# Altium schematic symbol library PWR578A.SCHLIB: 81 symbols (part 1 of 2)
Pins are listed as number, name and electrical type; pins without a type are passive.

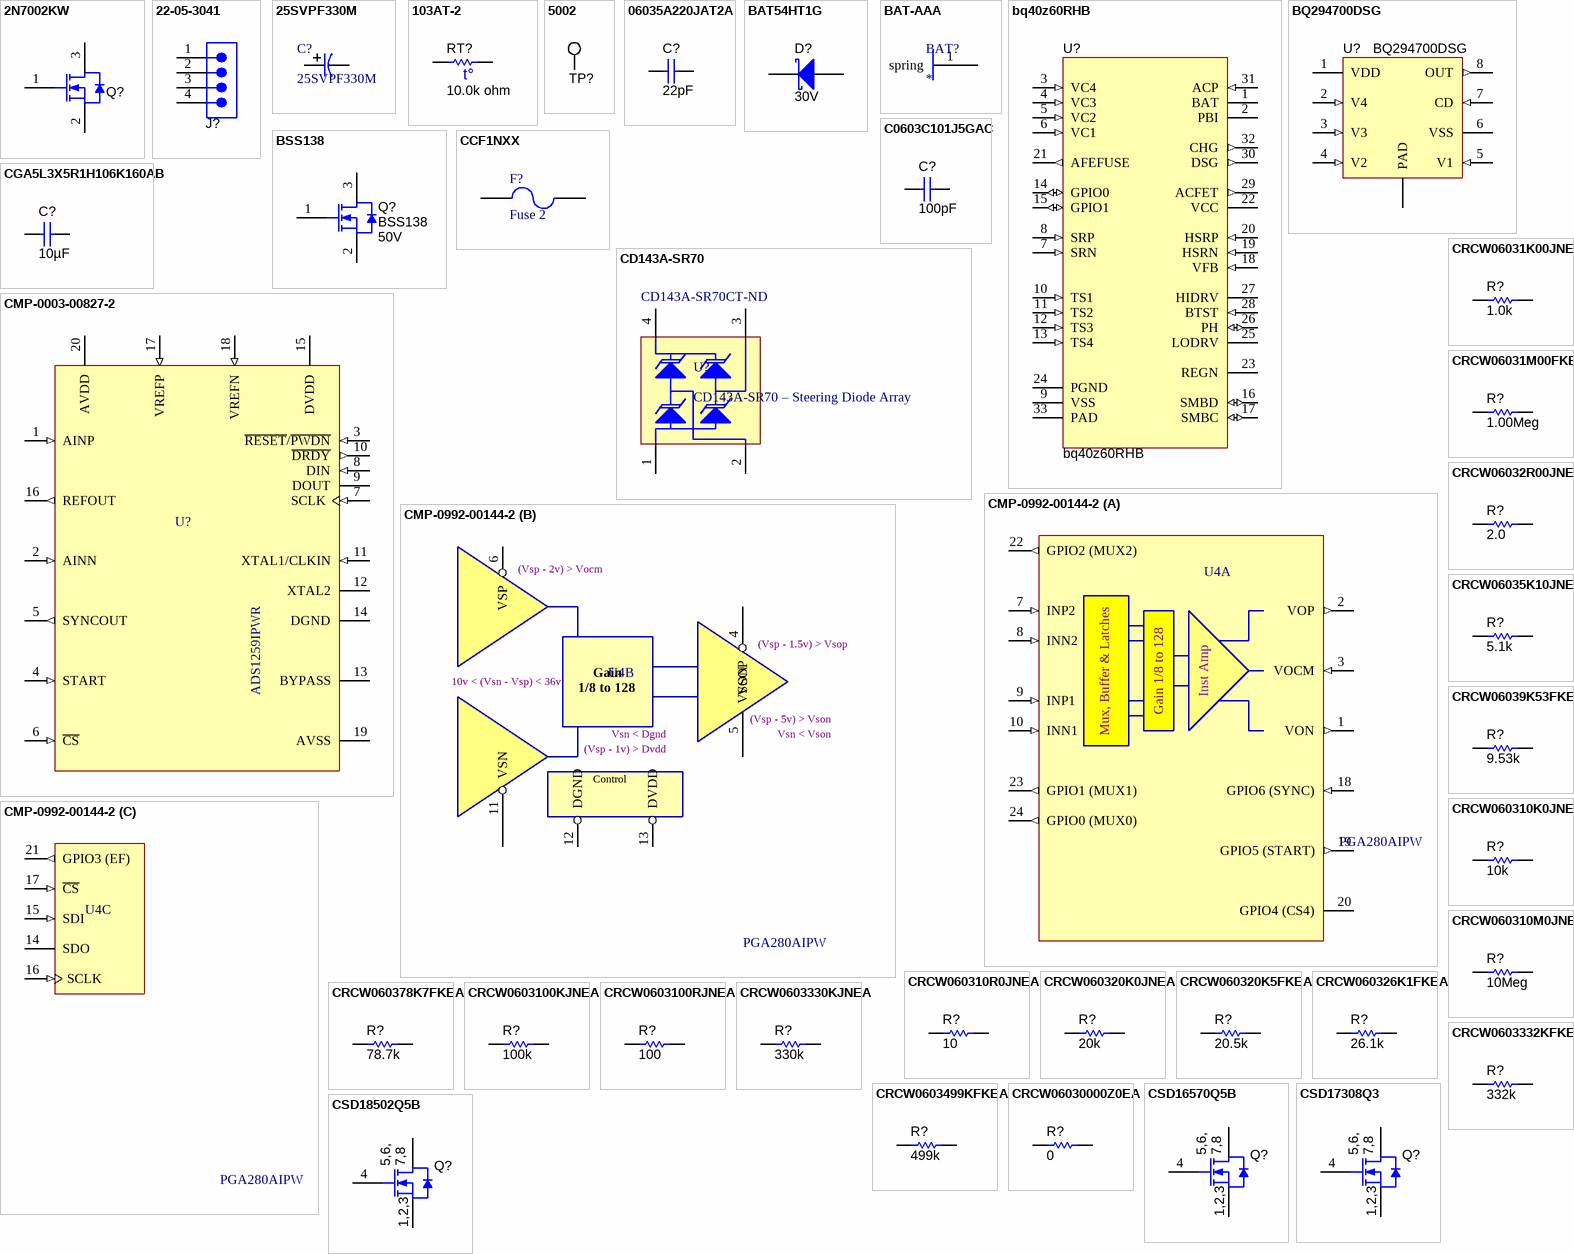
[diagram p0: symbols 2N7002KW to CSD18502Q5B]

## 2N7002KW
designator Q?  (value not drawn)
MOSFET, N-CH, 60V, 0.31A, SOT-323; Manufacturer: Fairchild Semiconductor; Alternate Manufacturer: None; U/M: EA; ChType: N; VdsMax_V: 60; Value1: 1.6 ohm; Rdson45_Ohm: 1.6; Value2: ? nC; Vgs_V: 2.1; IdsMax_A: 0.31; SymbolVersion: 2008-07-28; CompType: MOSFET; Value: 60V; PartNumber: 2N7002KW; PackageReference: SOT-323; RoHS: Y; MountType: SMT; Published: 2008-06-19; Publisher: Texas Instruments; LatestRevisionDate: 2013-07-16; LatestRevisionNote: Added parts.; ComponentLink1Description: Datasheet link; ComponentLink1URL: http://www.fairchildsemi.com/ds/2N/2N7002KW.pdf; Supplier 1: Digi-Key; Supplier Part Number 1: 2N7002KWCT-ND; Supplier 2: Mouser; Supplier Part Number 2: 512-2N7002KW
footprint SOT-323
pins: 1 G, 2 S, 3 D

## 22-05-3041
designator J?  (value not drawn)
Header, 100mil, 4x1, R/A, TH; Manufacturer: Molex; SymbolCreator: a0412235; U/M: EA; ComponentLink1URL: http://www.molex.com/pdm_docs/sd/022053041_sd.pdf; SymbolVersion: 2013-03-16; PackageReference: 4x1 R/A Header; PartNumber: 22-05-3041; ComponentLink1Description: Datasheet Link; CompType: Header; RoHS: Y; MountType: TH; Publisher: Texas Instruments; LatestRevisionDate: 2013-07-11; Supplier 1: Digi-Key; Supplier Part Number 1: WM4302-ND; Supplier 2: Mouser; Supplier Part Number 2: 538-22-05-3041; Supplier 3: Farnell; Supplier Part Number 3: 1756798
footprint CONN_22-05-3041
pins: 1, 2, 3, 4

## 25SVPF330M
designator C?
No Description Available; Vendor: Panasonic; Built_By: EMA_UL_Team; SourceLibrary: Panasonic_2013-09-03; Type: DEV; Manufacturer_Part_Number: 25SVPF330M; Copyright: Copyright (C) 2018 Accelerated Designs. All rights reserved; RefDes: RefDes
footprint PCAP_SVP_F12_PAN
pins: 1, 2

## 103AT-2
designator RT?  value 10.0k ohm  (hidden comment: 103AT-2)
Thermistor NTC, 10.0k ohm, 1%, Disc, 5x8.4 mm; Manufacturer: SEMITEC Corporation; Tolerance_%: 1; Power_W: 0.01; TaMin_C: -50; TaMax_C: 110; U/M: EA; CompType: ThermistorNTC; SymbolVersion: 2008-11-25; PartNumber: 103AT-2; Series: AT; PackageReference: Disc, 5x8.4 mm; MountType: TH; RoHS: Y; ComponentLink1Description: Datasheet link; ComponentLink1URL: http://www.semitec.co.jp/english2/products/pdf/AT_Thermistor.pdf; Published: 2009-09-22; Publisher: Texas Instruments; LatestRevisionDate: 2013-06-29; Supplier 1: Mouser; Supplier Part Number 1: 954-103AT-2
footprint Thermistor_103AT-2
pins: 1, 2
text: t°

## 5002
designator TP?  (value not drawn)
Test Point, Miniature, White, TH; Manufacturer: Keystone; CompType: Test Point Loop; U/M: EA; SymbolVersion: 2008-04-04; PartNumber: 5002; Value: White; RoHS: Y; PackageReference: White Miniature Testpoint; MountType: TH; ComponentLink1Description: Datasheet Link; ComponentLink1URL: http://www.keyelco.com/userAssets/file/M60-2p60.pdf; Publisher: Texas Instruments; LatestRevisionDate: 2013-07-11; Supplier 1: Digi-Key; Supplier Part Number 1: 5002K-ND; Supplier 2: Newark; Supplier Part Number 2: 82H9632
footprint Keystone5002
pins: 1

## 06035A220JAT2A
designator C?  ValueDisplayed: 22pF  (hidden comment: 06035A220JAT2A)
CAP, CERM, 22pF, 50V, +/-5%, C0G/NP0, 0603; Manufacturer: AVX; Polarized: N; CompType: Capacitor; U/M: EA; Cap_F: 0.000000000022; Tolerance_%: 5; ESR_Ohm: 0.259; Value1: 0.259 ohm; VDC_V: 50; TaMin_C: -55; TaMax_C: 125; Cap_Case: 0603; SymbolVersion: 2008-07-09; Value: 22pF; PartNumber: 06035A220JAT2A; PackageReference: 0603; RoHS: Y; Value2: 50V; MountType: SMT; Technology: Ceramic; TempCo: C0G/NP0; Published: 2008-06-19; Publisher: Texas Instruments; LatestRevisionDate: 2013-07-18; ComponentLink1Description: Datasheet link; ComponentLink1URL: http://www.avx.com/docs/masterpubs/smccp.pdf; Supplier 1: Digi-Key; Supplier Part Number 1: 478-1167-1-ND; Supplier 2: Mouser; Supplier Part Number 2: 581-06035A220J; Supplier 3: Farnell; Supplier Part Number 3: 498543
signal-integrity model Cap
simulation model Cap
footprint 0603
footprint 0603M
footprint 0603L
footprint 0603_HV
pins: 1, 2

## BAT54HT1G
designator D?  value 30V  (hidden comment: BAT54HT1G)
Diode, Schottky, 30V, 0.2A, SOD-323; Manufacturer: ON Semiconductor; U/M: EA; Vf_V: 0.35; Value2: 0.35V; Io_A: 0.2; Vr_V: 30; CompType: Diode; SymbolVersion: 2008-12-08; PartNumber: BAT54HT1G; PackageReference: SOD-323; Value1: 0.2A; MountType: SMT; Type: Schottky; Published: 2008-06-26; Publisher: Texas Instruments; LatestRevisionDate: 2013-07-17; ComponentLink1Description: Datasheet link; ComponentLink1URL: http://www.onsemi.com/pub/Collateral/BAT54HT1-D.PDF; Supplier 1: Digi-Key; Supplier Part Number 1: BAT54HT1GOSCT-ND; Supplier 2: Mouser; Supplier Part Number 2: 863-BAT54HT1G; Supplier 3: Farnell; Supplier Part Number 3: 1459033
signal-integrity model Diode
footprint sod-323
pins: 1 K, 2 A

## BAT-AAA
designator BAT?
AAA battery spring
footprint PN591 (AAA Spring Battery Holder)
pins: 1 spring

## bq40z60RHB
designator U?
Programmable Battery Pack Manager, RHB0032E; Alternate Manufacturer: None; Manufacturer: Texas Instruments; SymbolCreator: a0411947; CompType: IC; U/M: EA; SymbolVersion: 2013-07-16; PartNumber: bq40z60RHB; PackageReference: RHB0032E; MountType: SMT; ComponentLink1Description: Datasheet Link; ComponentLink1URL: https://sps06.itg.ti.com/sites/KMS/crossdivteams/altium/docs/ComponentDatasheets/bq40z60 PRELIM DS 140722.pdf; RoHS: Y; Publisher: Texas Instruments; LatestRevisionDate: 2014-09-29
footprint RHB0032E
footprint RHB0032E_NV
pins: 1 BAT (power), 2 PBI (power), 3 VC4 (in), 4 VC3 (in), 5 VC2 (in), 6 VC1 (in), 7 SRN (in), 8 SRP (in), 9 VSS (power), 10 TS1 (in), 11 TS2 (in), 12 TS3 (in), 13 TS4 (in), 14 GPIO0 (io), 15 GPIO1 (io), 16 SMBD (io), 17 SMBC (io), 18 VFB (in), 19 HSRN (in), 20 HSRP (in), 21 AFEFUSE (out), 22 VCC (power), 23 REGN (power), 24 PGND (power), 25 LODRV (power), 26 PH (io), 27 HIDRV (power), 28 BTST (in), 29 ACFET (out), 30 DSG (out), 31 ACP (in), 32 CHG (out), 33 PAD (power)

## BQ294700DSG
designator U?
Overvoltage Protection for 2-Series to 4-Series Cell Li-Ion Batteries with External Delay Capacitor, DSG0008A; Alternate Manufacturer: None; Manufacturer: Texas Instruments; SymbolCreator: a0411947; CompType: IC; U/M: EA; SymbolVersion: 2013-07-28; PartNumber: BQ294700DSG; PackageReference: DSG0008A; MountType: SMT; ComponentLink1Description: Datasheet Link; ComponentLink1URL: http://www.ti.com/lit/ds/symlink/bq294700.pdf; RoHS: Y; Publisher: Texas Instruments; LatestRevisionDate: 2013-07-31; LatestRevisionNote: Added Parts
footprint DSG0008A
pins: 1 VDD (power), 2 V4 (in), 3 V3 (in), 4 V2 (in), 5 V1 (in), 6 VSS (power), 7 CD (in), 8 OUT (out), 9 PAD (power)

## BSS138
designator Q?  value 50V
MOSFET, N-CH, 50V, 0.22A, SOT-23; Manufacturer: Fairchild Semiconductor; Alternate Manufacturer: None; U/M: EA; ChType: N; VdsMax_V: 50; Value1: 6 ohm; Rdson45_Ohm: 6; Value2: 1.7 nC; QgTyp_nC: 1.7; Vgs_V: 20; IdsMax_A: 0.22; ComponentLink1URL: http://www.fairchildsemi.com/ds/BS/BSS138.pdf; SymbolVersion: 2008-07-28; PackageReference: SOT-23; PartNumber: BSS138; ComponentLink1Description: Datasheet link; CompType: MOSFET; RoHS: Y; MountType: SMT; Published: 2008-06-19; Publisher: Texas Instruments; LatestRevisionDate: 2013-07-10; LatestRevisionNote: Added parts.; Supplier 1: Digi-Key; Supplier Part Number 1: BSS138CT-ND; Supplier 2: Mouser; Supplier Part Number 2: 512-BSS138; Supplier 3: Farnell; Supplier Part Number 3: 9845330
footprint SOT-23
footprint SOT-23M
footprint SOT-23L
pins: 1 G, 2 S, 3 D

## C0603C101J5GAC
designator C?  ValueDisplayed: 100pF  (hidden comment: C0603C101J5GAC)
CAP, CERM, 100pF, 50V, +/-5%, C0G/NP0, 0603; Manufacturer: Kemet; Polarized: N; CompType: Capacitor; U/M: EA; Cap_F: 0.0000000001; Tolerance_%: 5; Value1: Unknown; VDC_V: 50; TaMin_C: -55; TaMax_C: 125; Cap_Case: 0603; SymbolVersion: 2008-07-09; Value: 100pF; PartNumber: C0603C101J5GAC; PackageReference: 0603; RoHS: Y; Value2: 50V; MountType: SMT; Technology: Ceramic; TempCo: C0G/NP0; Published: 2008-06-19; Publisher: Texas Instruments; LatestRevisionDate: 2013-07-31; ComponentLink1Description: Datasheet link; ComponentLink1URL: http://www.kemet.com/kemet/web/homepage/kechome.nsf/vapubfiles/F3102_Y5V.pdf/$file/F3102_Y5V.pdf; Supplier 1: Farnell; Supplier Part Number 1: 1414602
signal-integrity model Cap
simulation model Cap
footprint 0603
footprint 0603M
footprint 0603L
footprint 0603_HV
pins: 1, 2

## CCF1NXX
designator F?, comment Fuse 2
Fuse; Published: 8-Jun-2000; LatestRevisionDate: 17-Jul-2002; LatestRevisionNote: Re-released for DXP Platform.; PackageReference: PIN-W2/E2.8; Publisher: Altium Limited; PackageDescription: Thru-Hole; 2 Leads
simulation model FUSE (Spice Subcircuit)
footprint FUSE 1206_3216 0.9MM (Chip Fuse 200mA 125V AC 125V DC, 2-Leads, Body 3.18x1.52mm, IPC Medium Density)
pins: 1, 2

## CD143A-SR70
designator U?, comment CD143A-SR70 – Steering Diode Array  Supplier Part Number 1: CD143A-SR70CT-ND
TVS DIODE 7V SOT143; Manufacturer: Bourns; Direction: Unidirectional; Working Voltage: 70V; Element Configuration: Dual; Max Surge Current: 24A; Number of Bidirectional Channels: 2; Power Line Protection: No; Breakdown Voltage: 85V; Leakage Current: 1uA; Test Current: 50uA; ESD Protection: Yes; Max Reverse Current: 100nA; Reverse Recovery Time: 4ns; Supplier 1: Digi-Key; Manufacturer Part Number: CD143A-SR70; RoHS: Yes; Category: TVS Diodes; Stock 1: 14865; Pricing 1: 1=0.91000, 10=0.81100, 100=0.57750, 500=0.48950, 1000=0.39875 (USD); Mount: Surface Mount; Case/Package: SOT-143; Number of Pins: 4; Contact Plating: Tin; Min Operating Temperature: -55°C; Max Operating Temperature: 150°C; Package Quantity: 1; Packaging: Tape and Reel; Clamping Voltage: 7V; Termination: SMD/SMT; Polarity: Unidirectional; Number of Channels: 2; Peak Pulse Current: 24A; Reverse Standoff Voltage: 70V; Min Breakdown Voltage: 85V; Max Reverse Leakage Current: 1uA; Max Breakdown Voltage: 85V; Reverse Breakdown Voltage: 85V; Number of Elements: 2; Length: 3.04mm; Width: 1.39mm; Height: 1.14mm; Depth: 1.39mm; Radiation Hardening: No; REACH SVHC: No SVHC; ComponentLink1URL: https://datasheet.ciiva.com/336/cd143a-sr70-336789.pdf?src-supplier=Digi-Key; ComponentLink1Description: https://datasheet.ciiva.com/336/cd143a-sr70-336789.pdf?src-supplier=Digi-Key; ComponentLink2URL: https://datasheet.ciiva.com/30478/0900766b8118997a-30478775.pdf?src-supplier=RSComponents; ComponentLink2Description: https://datasheet.ciiva.com/30478/0900766b8118997a-30478775.pdf?src-supplier=RSComponents; ComponentLink3URL: https://datasheet.ciiva.com/4509/cd143a-sr70-6316-4509754.pdf?src-supplier=Mouser; ComponentLink3Description: https://datasheet.ciiva.com/4509/cd143a-sr70-6316-4509754.pdf?src-supplier=Mouser; ComponentLink4URL: https://datasheet.ciiva.com/15143/getdatasheetpartid-137227-15143664.pdf?src-supplier=Verical; ComponentLink4Description: https://datasheet.ciiva.com/15143/getdatasheetpartid-137227-15143664.pdf?src-supplier=Verical; ComponentLink5URL: https://datasheet.ciiva.com/1276/1-1276625.pdf?src-supplier=Element14; ComponentLink5Description: https://datasheet.ciiva.com/1276/1-1276625.pdf?src-supplier=Element14; ComponentLink6URL: https://datasheet.ciiva.com/3021/cd143a-sr70-3021745.pdf?src-supplier=Avnet; ComponentLink6Description: https://datasheet.ciiva.com/3021/cd143a-sr70-3021745.pdf?src-supplier=Avnet; ComponentLink7URL: https://datasheet.ciiva.com/26787/cd143a-sr70-26787421.pdf?src-supplier=IIIC; ComponentLink7Description: https://datasheet.ciiva.com/26787/cd143a-sr70-26787421.pdf?src-supplier=IIIC; ComponentLink8URL: https://datasheet.ciiva.com/25955/cd143a-sr70-25955653.pdf?src-supplier=Avnet+Europe; ComponentLink8Description: https://datasheet.ciiva.com/25955/cd143a-sr70-25955653.pdf?src-supplier=Avnet+Europe; ComponentLink9URL: https://datasheet.ciiva.com/336/cd143a-sr70-336790.pdf?src-supplier=Digi-Key; ComponentLink9Description: https://datasheet.ciiva.com/336/cd143a-sr70-336790.pdf?src-supplier=Digi-Key; ComponentLink10URL: https://datasheet.ciiva.com/336/cd143a-sr70-336791.pdf?src-supplier=Digi-Key; ComponentLink10Description: https://datasheet.ciiva.com/336/cd143a-sr70-336791.pdf?src-supplier=Digi-Key; ComponentLink11URL: https://datasheet.ciiva.com/1281/1-1281183.pdf?src-supplier=Farnell; ComponentLink11Description: https://datasheet.ciiva.com/1281/1-1281183.pdf?src-supplier=Farnell
footprint SOT143B (SOT143, 4-Leads, Body 2.90x2.30mm, Pitch 1.90mm, IPC Medium Density)
pins: 1, 2, 3, 4

## CGA5L3X5R1H106K160AB
designator C?  ValueDisplayed: 10µF  (hidden comment: CGA5L3X5R1H106K160AB)
CAP, CERM, 10 µF, 50 V, +/- 10%, X5R, 1206_190; Manufacturer: TDK; Polarized: N; CompType: Capacitor; Value: 10uF; U/M: EA; Cap_F: 0.00001; Tolerance_%: 10; Value1: Unknown; VDC_V: 50; Value2: 50V; TaMin_C: -55; TaMax_C: 85; SymbolVersion: 2008-07-09; PartNumber: CGA5L3X5R1H106K160AB; PackageReference: 1206_190; RoHS: Y; MountType: SMT; Technology: Ceramic; TempCo: X5R; Cap_Case: 1206_190; Published: 2008-06-19; Publisher: Texas Instruments; LatestRevisionDate: 2014-09-26; ComponentLink1Description: Datasheet link; ComponentLink1URL: http://product.tdk.com/capacitor/mlcc/en/documents/mlcc_automotive_general_en.pdf; Supplier 1: Digi-Key; Supplier Part Number 1: 445-7886-1-ND; Supplier 2: Mouser; Supplier Part Number 2: 810-CGA5L3X5R1H106K; Supplier 3: Newark; Supplier Part Number 3: 52W9861
signal-integrity model Cap
simulation model Cap
footprint 1206_190
pins: 1, 2

## CMP-0003-00827-2
designator U?, comment ADS1259IPWR
Low-Noise, 14 kSPS, 24-Bit ADC, -40 to 105 degC, 20-pin SOP (PW20), Green (RoHS & no Sb/Br); Manufacturer: Texas Instruments; Digital Supply(Max)(V): 5.25; Digital Supply(Min)(V): 2.7; Architecture: Delta-Sigma; # Input Channels: 1; Interface: Serial SPI; Resolution(Bits): 24; SubFamily: Precision ADC (<=10MSPS); Sample Rate (max)(SPS): 14.4K; Analog Voltage AV/DD(Min)(V): 4.75; PackageVersion: 4040064-5/G, 02/2011; DatasheetVersion: SBAS424D; ComponentLink3URL: http://www.ti.com.cn/cn/lit/ml/mpds362/mpds362.pdf; PartNumber: ADS1259IPWR; ComponentLink2URL: http://www.ti.com/general/docs/lit/getliterature.tsp?genericPartNumber=ADS1259&fileType=pdf; Mounting Technology: Surface Mount; Analog Voltage AV/DD(Max)(V): 5.25; Code_JEDEC: MO-153; Eco-Plan: Green (RoHS & no Sb/Br); ComponentLink1Description: Manufacturer URL; ComponentLink2Description: Datasheet; PackageDescription: 20-Pin Plastic Small Outline, Body 6.5 x 4.4 mm, Pitch 0.65 mm; PackageReference: PW20; ComponentLink1URL: http://www.ti.com/; ComponentLink3Description: Package Specification
footprint TI-PW20_M (SOP, 20-Leads, Body 6.5x4.4mm, Pitch 0.65mm, IPC Low Density)
footprint TI-PW20_L (SOP, 20-Leads, Body 6.5x4.4mm, Pitch 0.65mm, IPC High Density)
footprint TI-PW20_N (SOP, 20-Leads, Body 6.5x4.4mm, Pitch 0.65mm, IPC Medium Density)
pins: 1 AINP (in) "Positive analog input", 2 AINN (in) "Negative analog input", 3 ~{RESET}/~{PWDN} (in), 4 START (in) "Start conversions, active high", 5 SYNCOUT (out) "Sync clock output (fCLK/8)", 6 ~{CS} (in) "SPI chip-select, active low", 7 SCLK (in) "SPI clock input", 8 DIN (in) "SPI data input", 9 DOUT (hiz) "SPI data output", 10 ~{DRDY} (out) "Data ready output, active low", 11 XTAL1/CLKIN (in), 12 XTAL2 "External crystal2, otherwise no connection", 13 BYPASS "Core voltage bypass", 14 DGND (power) "Digital ground", 15 DVDD (power) "Digital power supply", 16 REFOUT (out) "Positive reference output", 17 VREFP (in) "Positive reference input", 18 VREFN (in) "Negative reference input", 19 AVSS (power) "Negative analog power supply and negative reference output", 20 AVDD (power) "Positive analog power supply"

## CMP-0992-00144-2
designator U4, comment PGA280AIPW
Zero Drift, HV Programmable Gain Amplifier, -40 to 125 degC, 24-pin SOP (PW24), Green (RoHS & no Sb/Br); Manufacturer: Texas Instruments; Input Offset Drift (+/-)(Max)(uV/Degrees Celsius): 0.17; Vs(Max)(V): 36; Gain(V/V): 1/8 to 128; SubFamily: Dual Supply; Vs(Min)(V): 10; Input Bias Current (+/-)(Max)(nA): 2; Noise at 1kHz(Typ)(nV/rt(Hz)): 22; Number of Channels: 4; Input Offset (+/-)(Max)(uV): 15; DatasheetVersion: SBOS487A; Mounting Technology: Surface Mount; Code_JEDEC: MO-153; ComponentLink1Description: Manufacturer URL; PackageReference: PW0024A; Eco-Plan: Green (RoHS & no Sb/Br); ComponentLink1URL: http://www.ti.com/; PackageVersion: 4040064-6/G, 02/2011; ComponentLink2Description: Datasheet; PartNumber: PGA280AIPW; PackageDescription: 24-Pin Plastic Small Outline, Body 7.8 x 4.4 mm, Pitch 0.65 mm; ComponentLink3Description: Package Specification; ComponentLink3URL: http://www.ti.com/litv/pdf/mpds363; ComponentLink2URL: http://www.ti.com/general/docs/lit/getliterature.tsp?genericPartNumber=PGA280&fileType=pdf
footprint PW0024A_N (SOP, 24-Leads, Body 7.9x4.5mm, Pitch 0.65mm, IPC Medium Density)
footprint PW0024A_L (SOP, 24-Leads, Body 7.9x4.5mm, Pitch 0.65mm, IPC High Density)
footprint PW0024A_M (SOP, 24-Leads, Body 7.9x4.5mm, Pitch 0.65mm, IPC Low Density)
part A pins: 1 VON (out) "Inverting signal output", 2 VOP (out) "Noninverting signal output", 3 VOCM (in) "Input, output common-mode voltage", 7 INP2 (in) "AUX input, noninverting", 8 INN2 (in) "AUX input, inverting", 9 INP1 (in) "Signal input, noninverting", 10 INN1 (in) "Signal input, inverting", 18 GPIO6 (SYNC) (in) "GPIO 6, SYNC (in), OSC (out), E\C\S\6", 19 GPIO5 (START) (out) "GPIO 5, BUFA (out), E\C\S\5", 20 GPIO4 (CS4) (oc) "GPIO 4, BUFT (in), E\C\S\4", 22 GPIO2 (MUX2) (out) "GPIO 2, E\C\S\2, MUX2", 23 GPIO1 (MUX1) (out) "GPIO 1, E\C\S\1, MUX1", 24 GPIO0 (MUX0) (out) "GPIO 0, E\C\S\0, MUX0"
part B pins: 4 VSOP (power) "Positive supply for output", 5 VSON (power) "Negative supply for output, AGND", 6 VSP (power) "Positive high-voltage supply", 11 VSN (power) "Negative high-voltage supply", 12 DGND (power) "Digital ground", 13 DVDD (power) "Digital supply"
part C pins: 14 SDO (hiz) "SPI slave data output", 15 SDI (in) "SPI slave data input", 16 SCLK (in) "SPI clock input", 17 ~{CS} (in) "SPI chip select input; active low", 21 GPIO3 (EF) (out) "GPIO 3, EF (out), E\C\S\3"
part A text: Mux, Buffer & Latches; Gain 1/8 to 128; Inst Amp
part B text: (Vsp - 2v) > Vocm; (Vsp - 1.5v) > Vsop; 10v < (Vsn - Vsp) < 36v; Gain; (Vsp - 5v) > Vson; Vsn < Dgnd; Vsn < Vson; (Vsp - 1v) > Dvdd; Control

## CRCW06031K00JNEA
designator R?  value 1.0k  (hidden comment: CRCW06031K00JNEA)
RES, 1.0k ohm, 5%, 0.1W, 0603; Manufacturer: Vishay-Dale; CompType: Resistor; Res_ohm: 1000; Value_Code: 1k00; Tolerance_%: 5; Power_W: 0.1; VDC_V: 75; TempCo: 200 ppm/C; EIA_Code: E24; U/M: EA; SymbolVersion: 2009-05-29; PartNumber: CRCW06031K00JNEA; PackageReference: 0603; RoHS: Y; Value1: 5%; Value2: 0.1W; MountType: SMT; Technology: Thick Film; Published: 2008-06-26; Publisher: Texas Instruments; LatestRevisionDate: 2013-01-08; ComponentLink1Description: Datasheet link; ComponentLink1URL: http://www.vishay.com/docs/20035/dcrcwe3.pdf; Supplier 1: Digi-Key; Supplier Part Number 1: 541-1.0KGCT-ND; Supplier 2: Farnell; Supplier Part Number 2: 1652851; Supplier 3: Newark; Supplier Part Number 3: 59M6750
signal-integrity model Resistor
simulation model Resistor
footprint 0603
footprint 0603M
footprint 0603L
footprint 0603_HV
pins: 1, 2

## CRCW06031M00FKEA
designator R?  value 1.00Meg  (hidden comment: CRCW06031M00FKEA)
RES, 1.00Meg ohm, 1%, 0.1W, 0603; Manufacturer: Vishay-Dale; CompType: Resistor; Res_ohm: 1000000; Value_Code: 1M00; Tolerance_%: 1; Power_W: 0.1; VDC_V: 75; TempCo: 100 ppm/C; EIA_Code: E96; U/M: EA; SymbolVersion: 2009-05-29; PartNumber: CRCW06031M00FKEA; PackageReference: 0603; RoHS: Y; Value1: 1%; Value2: 0.1W; MountType: SMT; Technology: Thick Film; Published: 2008-06-26; Publisher: Texas Instruments; LatestRevisionDate: 2013-07-19; ComponentLink1Description: Datasheet link; ComponentLink1URL: http://www.vishay.com/docs/20035/dcrcwe3.pdf; Supplier 1: Digi-Key; Supplier Part Number 1: 541-1.00MHCT-ND; Supplier 2: Mouser; Supplier Part Number 2: 71-CRCW0603-1.0M-E3; Supplier 3: Farnell; Supplier Part Number 3: 1469746
signal-integrity model Resistor
simulation model Resistor
footprint 0603
footprint 0603M
footprint 0603L
footprint 0603_HV
pins: 1, 2

## CRCW06032R00JNEA
designator R?  value 2.0  (hidden comment: CRCW06032R00JNEA)
RES, 2.0 ohm, 5%, 0.1W, 0603; Manufacturer: Vishay-Dale; CompType: Resistor; Res_ohm: 2; Value_Code: 2R00; Tolerance_%: 5; Power_W: 0.1; VDC_V: 75; TempCo: 200 ppm/C; EIA_Code: E24; U/M: EA; SymbolVersion: 2009-05-29; PartNumber: CRCW06032R00JNEA; PackageReference: 0603; RoHS: Y; Value1: 5%; Value2: 0.1W; MountType: SMT; Technology: Thick Film; Published: 2008-06-26; Publisher: Texas Instruments; LatestRevisionDate: 2013-01-08; ComponentLink1Description: Datasheet link; ComponentLink1URL: http://www.vishay.com/docs/20035/dcrcwe3.pdf; Supplier 1: Digi-Key; Supplier Part Number 1: 541-2.0GCT-ND; Supplier 2: Mouser; Supplier Part Number 2: 71-CRCW0603J-2-E3; Supplier 3: Farnell; Supplier Part Number 3: 1889800
signal-integrity model Resistor
simulation model Resistor
footprint 0603
footprint 0603M
footprint 0603L
footprint 0603_HV
pins: 1, 2

## CRCW06035K10JNEA
designator R?  value 5.1k  (hidden comment: CRCW06035K10JNEA)
RES, 5.1k ohm, 5%, 0.1W, 0603; Manufacturer: Vishay-Dale; CompType: Resistor; Res_ohm: 5100; Value_Code: 5k10; Tolerance_%: 5; Power_W: 0.1; VDC_V: 75; TempCo: 200 ppm/C; EIA_Code: E24; U/M: EA; SymbolVersion: 2009-05-29; PartNumber: CRCW06035K10JNEA; PackageReference: 0603; RoHS: Y; Value1: 5%; Value2: 0.1W; MountType: SMT; Technology: Thick Film; Published: 2008-06-26; Publisher: Texas Instruments; LatestRevisionDate: 2013-01-08; ComponentLink1Description: Datasheet link; ComponentLink1URL: http://www.vishay.com/docs/20035/dcrcwe3.pdf; Supplier 1: Digi-Key; Supplier Part Number 1: 541-5.1KGCT-ND; Supplier 2: Farnell; Supplier Part Number 2: 1570751; Supplier 3: Newark; Supplier Part Number 3: 89M6773
signal-integrity model Resistor
simulation model Resistor
footprint 0603
footprint 0603M
footprint 0603L
footprint 0603_HV
pins: 1, 2

## CRCW06039K53FKEA
designator R?  value 9.53k  (hidden comment: CRCW06039K53FKEA)
RES, 9.53k ohm, 1%, 0.1W, 0603; Manufacturer: Vishay-Dale; CompType: Resistor; Res_ohm: 9530; Value_Code: 9k53; Tolerance_%: 1; Power_W: 0.1; VDC_V: 75; TempCo: 100 ppm/C; EIA_Code: E96; U/M: EA; SymbolVersion: 2009-05-29; PartNumber: CRCW06039K53FKEA; PackageReference: 0603; RoHS: Y; Value1: 1%; Value2: 0.1W; MountType: SMT; Technology: Thick Film; Published: 2008-06-26; Publisher: Texas Instruments; LatestRevisionDate: 2013-01-08; ComponentLink1Description: Datasheet link; ComponentLink1URL: http://www.vishay.com/docs/20035/dcrcwe3.pdf; Supplier 1: Digi-Key; Supplier Part Number 1: 541-9.53KHCT-ND; Supplier 2: Mouser; Supplier Part Number 2: 71-CRCW0603-9.53K-E3; Supplier 3: Farnell; Supplier Part Number 3: 1469844
signal-integrity model Resistor
simulation model Resistor
footprint 0603
footprint 0603M
footprint 0603L
footprint 0603_HV
pins: 1, 2

## CRCW060310K0JNEA
designator R?  value 10k  (hidden comment: CRCW060310K0JNEA)
RES, 10k ohm, 5%, 0.1W, 0603; Manufacturer: Vishay-Dale; CompType: Resistor; Res_ohm: 10000; Value_Code: 10k0; Tolerance_%: 5; Power_W: 0.1; VDC_V: 75; TempCo: 200 ppm/C; EIA_Code: E24; U/M: EA; SymbolVersion: 2009-05-29; PartNumber: CRCW060310K0JNEA; PackageReference: 0603; RoHS: Y; Value1: 5%; Value2: 0.1W; MountType: SMT; Technology: Thick Film; Published: 2008-06-26; Publisher: Texas Instruments; LatestRevisionDate: 2013-01-08; ComponentLink1Description: Datasheet link; ComponentLink1URL: http://www.vishay.com/docs/20035/dcrcwe3.pdf; Supplier 1: Digi-Key; Supplier Part Number 1: 541-10KGCT-ND; Supplier 2: Farnell; Supplier Part Number 2: 1562240; Supplier 3: Newark; Supplier Part Number 3: 52K8066
signal-integrity model Resistor
simulation model Resistor
footprint 0603
footprint 0603M
footprint 0603L
footprint 0603_HV
pins: 1, 2

## CRCW060310M0JNEA
designator R?  value 10Meg  (hidden comment: CRCW060310M0JNEA)
RES, 10Meg ohm, 5%, 0.1W, 0603; Manufacturer: Vishay-Dale; CompType: Resistor; Res_ohm: 10000000; Value_Code: 10M0; Tolerance_%: 5; Power_W: 0.1; VDC_V: 75; TempCo: 200 ppm/C; EIA_Code: E24; U/M: EA; SymbolVersion: 2009-05-29; PartNumber: CRCW060310M0JNEA; PackageReference: 0603; RoHS: Y; Value1: 5%; Value2: 0.1W; MountType: SMT; Technology: Thick Film; Published: 2008-06-26; Publisher: Texas Instruments; LatestRevisionDate: 2013-01-08; ComponentLink1Description: Datasheet link; ComponentLink1URL: http://www.vishay.com/docs/20035/dcrcwe3.pdf; Supplier 1: Digi-Key; Supplier Part Number 1: 541-10MGCT-ND; Supplier 2: Mouser; Supplier Part Number 2: 71-CRCW0603J-10M-E3; Supplier 3: Farnell; Supplier Part Number 3: 1514711
signal-integrity model Resistor
simulation model Resistor
footprint 0603
footprint 0603M
footprint 0603L
footprint 0603_HV
pins: 1, 2

## CRCW060310R0JNEA
designator R?  value 10  (hidden comment: CRCW060310R0JNEA)
RES, 10 ohm, 5%, 0.1W, 0603; Manufacturer: Vishay-Dale; CompType: Resistor; Value_Code: 10R0; Tolerance_%: 5; Power_W: 0.1; VDC_V: 75; TempCo: 200 ppm/C; EIA_Code: E24; U/M: EA; SymbolVersion: 2009-05-29; PartNumber: CRCW060310R0JNEA; PackageReference: 0603; RoHS: Y; Res_ohm: 10; Value1: 5%; Value2: 0.1W; MountType: SMT; Technology: Thick Film; Published: 2008-06-26; Publisher: Texas Instruments; LatestRevisionDate: 2013-01-08; ComponentLink1Description: Datasheet link; ComponentLink1URL: http://www.vishay.com/docs/20035/dcrcwe3.pdf; Supplier 1: Digi-Key; Supplier Part Number 1: 541-10GCT-ND; Supplier 2: Mouser; Supplier Part Number 2: 71-CRCW0603J-10-E3; Supplier 3: Farnell; Supplier Part Number 3: 1514712
signal-integrity model Resistor
simulation model Resistor
footprint 0603
footprint 0603M
footprint 0603L
footprint 0603_HV
pins: 1, 2

## CRCW060320K0JNEA
designator R?  value 20k  (hidden comment: CRCW060320K0JNEA)
RES, 20k ohm, 5%, 0.1W, 0603; Manufacturer: Vishay-Dale; CompType: Resistor; Res_ohm: 20000; Value_Code: 20k0; Tolerance_%: 5; Power_W: 0.1; VDC_V: 75; TempCo: 200 ppm/C; EIA_Code: E24; U/M: EA; SymbolVersion: 2009-05-29; PartNumber: CRCW060320K0JNEA; PackageReference: 0603; RoHS: Y; Value1: 5%; Value2: 0.1W; MountType: SMT; Technology: Thick Film; Published: 2008-06-26; Publisher: Texas Instruments; LatestRevisionDate: 2013-01-08; ComponentLink1Description: Datasheet link; ComponentLink1URL: http://www.vishay.com/docs/20035/dcrcwe3.pdf; Supplier 1: Mouser; Supplier Part Number 1: 71-CRCW0603J-20K-E3; Supplier 2: Farnell; Supplier Part Number 2: 1514734; Supplier 3: Newark; Supplier Part Number 3: 59M6783
signal-integrity model Resistor
simulation model Resistor
footprint 0603
footprint 0603M
footprint 0603L
footprint 0603_HV
pins: 1, 2

## CRCW060320K5FKEA
designator R?  value 20.5k  (hidden comment: CRCW060320K5FKEA)
RES, 20.5k ohm, 1%, 0.1W, 0603; Manufacturer: Vishay-Dale; CompType: Resistor; Res_ohm: 20500; Value_Code: 20k5; Tolerance_%: 1; Power_W: 0.1; VDC_V: 75; TempCo: 100 ppm/C; EIA_Code: E96; U/M: EA; SymbolVersion: 2009-05-29; PartNumber: CRCW060320K5FKEA; PackageReference: 0603; RoHS: Y; Value1: 1%; Value2: 0.1W; MountType: SMT; Technology: Thick Film; Published: 2008-06-26; Publisher: Texas Instruments; LatestRevisionDate: 2013-01-08; ComponentLink1Description: Datasheet link; ComponentLink1URL: http://www.vishay.com/docs/20035/dcrcwe3.pdf; Supplier 1: Digi-Key; Supplier Part Number 1: 541-20.5KHCT-ND; Supplier 2: Mouser; Supplier Part Number 2: 71-CRCW0603-20.5K-E3; Supplier 3: Farnell; Supplier Part Number 3: 1469775
signal-integrity model Resistor
simulation model Resistor
footprint 0603
footprint 0603M
footprint 0603L
footprint 0603_HV
pins: 1, 2

## CRCW060326K1FKEA
designator R?  value 26.1k  (hidden comment: CRCW060326K1FKEA)
RES, 26.1k ohm, 1%, 0.1W, 0603; Manufacturer: Vishay-Dale; CompType: Resistor; Res_ohm: 26100; Value_Code: 26k1; Tolerance_%: 1; Power_W: 0.1; VDC_V: 75; TempCo: 100 ppm/C; EIA_Code: E96; U/M: EA; SymbolVersion: 2009-05-29; PartNumber: CRCW060326K1FKEA; PackageReference: 0603; RoHS: Y; Value1: 1%; Value2: 0.1W; MountType: SMT; Technology: Thick Film; Published: 2008-06-26; Publisher: Texas Instruments; LatestRevisionDate: 2013-01-08; ComponentLink1Description: Datasheet link; ComponentLink1URL: http://www.vishay.com/docs/20035/dcrcwe3.pdf; Supplier 1: Digi-Key; Supplier Part Number 1: 541-26.1KHCT-ND; Supplier 2: Mouser; Supplier Part Number 2: 71-CRCW0603-26.1K-E3; Supplier 3: Farnell; Supplier Part Number 3: 1151864
signal-integrity model Resistor
simulation model Resistor
footprint 0603
footprint 0603M
footprint 0603L
footprint 0603_HV
pins: 1, 2

## CRCW060378K7FKEA
designator R?  value 78.7k  (hidden comment: CRCW060378K7FKEA)
RES, 78.7k ohm, 1%, 0.1W, 0603; Manufacturer: Vishay-Dale; CompType: Resistor; Res_ohm: 78700; Value_Code: 78k7; Tolerance_%: 1; Power_W: 0.1; VDC_V: 75; TempCo: 100 ppm/C; EIA_Code: E96; U/M: EA; SymbolVersion: 2009-05-29; PartNumber: CRCW060378K7FKEA; PackageReference: 0603; RoHS: Y; Value1: 1%; Value2: 0.1W; MountType: SMT; Technology: Thick Film; Published: 2008-06-26; Publisher: Texas Instruments; LatestRevisionDate: 2013-01-08; ComponentLink1Description: Datasheet link; ComponentLink1URL: http://www.vishay.com/docs/20035/dcrcwe3.pdf; Supplier 1: Digi-Key; Supplier Part Number 1: 541-78.7KHCT-ND; Supplier 2: Mouser; Supplier Part Number 2: 71-CRCW0603-78.7K-E3; Supplier 3: Farnell; Supplier Part Number 3: 1553309
signal-integrity model Resistor
simulation model Resistor
footprint 0603
footprint 0603M
footprint 0603L
footprint 0603_HV
pins: 1, 2

## CRCW0603100KJNEA
designator R?  value 100k  (hidden comment: CRCW0603100KJNEA)
RES, 100k ohm, 5%, 0.1W, 0603; Manufacturer: Vishay-Dale; CompType: Resistor; Res_ohm: 100000; Tolerance_%: 5; Power_W: 0.1; VDC_V: 75; TempCo: 200 ppm/C; EIA_Code: E24; U/M: EA; SymbolVersion: 2009-05-29; PartNumber: CRCW0603100KJNEA; PackageReference: 0603; RoHS: Y; Value_Code: 100k; Value1: 5%; Value2: 0.1W; MountType: SMT; Technology: Thick Film; Published: 2008-06-26; Publisher: Texas Instruments; LatestRevisionDate: 2013-01-08; ComponentLink1Description: Datasheet link; ComponentLink1URL: http://www.vishay.com/docs/20035/dcrcwe3.pdf; Supplier 1: Mouser; Supplier Part Number 1: 71-CRCW0603J-100K-E3; Supplier 2: Farnell; Supplier Part Number 2: 1692517; Supplier 3: Newark; Supplier Part Number 3: 59M6763
signal-integrity model Resistor
simulation model Resistor
footprint 0603
footprint 0603M
footprint 0603L
footprint 0603_HV
pins: 1, 2

## CRCW0603100RJNEA
designator R?  value 100  (hidden comment: CRCW0603100RJNEA)
RES, 100 ohm, 5%, 0.1W, 0603; Manufacturer: Vishay-Dale; CompType: Resistor; Value_Code: 100R; Tolerance_%: 5; Power_W: 0.1; VDC_V: 75; TempCo: 200 ppm/C; EIA_Code: E24; U/M: EA; SymbolVersion: 2009-05-29; PartNumber: CRCW0603100RJNEA; PackageReference: 0603; RoHS: Y; Res_ohm: 100; Value1: 5%; Value2: 0.1W; MountType: SMT; Technology: Thick Film; Published: 2008-06-26; Publisher: Texas Instruments; LatestRevisionDate: 2013-01-08; ComponentLink1Description: Datasheet link; ComponentLink1URL: http://www.vishay.com/docs/20035/dcrcwe3.pdf; Supplier 1: Digi-Key; Supplier Part Number 1: 541-100GCT-ND; Supplier 2: Mouser; Supplier Part Number 2: 71-CRCW0603J-100-E3; Supplier 3: Farnell; Supplier Part Number 3: 1514715
signal-integrity model Resistor
simulation model Resistor
footprint 0603
footprint 0603M
footprint 0603L
footprint 0603_HV
pins: 1, 2

## CRCW0603330KJNEA
designator R?  value 330k  (hidden comment: CRCW0603330KJNEA)
RES, 330k ohm, 5%, 0.1W, 0603; Manufacturer: Vishay-Dale; CompType: Resistor; Res_ohm: 330000; Tolerance_%: 5; Power_W: 0.1; VDC_V: 75; TempCo: 200 ppm/C; EIA_Code: E24; U/M: EA; SymbolVersion: 2009-05-29; PartNumber: CRCW0603330KJNEA; PackageReference: 0603; RoHS: Y; Value_Code: 330k; Value1: 5%; Value2: 0.1W; MountType: SMT; Technology: Thick Film; Published: 2008-06-26; Publisher: Texas Instruments; LatestRevisionDate: 2013-07-19; ComponentLink1Description: Datasheet link; ComponentLink1URL: http://www.vishay.com/docs/20035/dcrcwe3.pdf; Supplier 1: Mouser; Supplier Part Number 1: 71-CRCW0603J-330K-E3; Supplier 2: Farnell; Supplier Part Number 2: 1514758; Supplier 3: Newark; Supplier Part Number 3: 59M6804
signal-integrity model Resistor
simulation model Resistor
footprint 0603
footprint 0603M
footprint 0603L
footprint 0603_HV
pins: 1, 2

## CRCW0603332KFKEA
designator R?  value 332k  (hidden comment: CRCW0603332KFKEA)
RES, 332k ohm, 1%, 0.1W, 0603; Manufacturer: Vishay-Dale; CompType: Resistor; Res_ohm: 332000; Tolerance_%: 1; Power_W: 0.1; VDC_V: 75; TempCo: 100 ppm/C; EIA_Code: E96; U/M: EA; SymbolVersion: 2009-05-29; PartNumber: CRCW0603332KFKEA; PackageReference: 0603; RoHS: Y; Value_Code: 332k; Value1: 1%; Value2: 0.1W; MountType: SMT; Technology: Thick Film; Published: 2008-06-26; Publisher: Texas Instruments; LatestRevisionDate: 2013-01-08; ComponentLink1Description: Datasheet link; ComponentLink1URL: http://www.vishay.com/docs/20035/dcrcwe3.pdf; Supplier 1: Digi-Key; Supplier Part Number 1: 541-332KHCT-ND; Supplier 2: Mouser; Supplier Part Number 2: 71-CRCW0603-332K-E3; Supplier 3: Farnell; Supplier Part Number 3: 1151950
signal-integrity model Resistor
simulation model Resistor
footprint 0603
footprint 0603M
footprint 0603L
footprint 0603_HV
pins: 1, 2

## CRCW0603499KFKEA
designator R?  value 499k  (hidden comment: CRCW0603499KFKEA)
RES, 499k ohm, 1%, 0.1W, 0603; Manufacturer: Vishay-Dale; CompType: Resistor; Res_ohm: 499000; Tolerance_%: 1; Power_W: 0.1; VDC_V: 75; TempCo: 100 ppm/C; EIA_Code: E96; U/M: EA; SymbolVersion: 2009-05-29; PartNumber: CRCW0603499KFKEA; PackageReference: 0603; RoHS: Y; Value_Code: 499k; Value1: 1%; Value2: 0.1W; MountType: SMT; Technology: Thick Film; Published: 2008-06-26; Publisher: Texas Instruments; LatestRevisionDate: 2013-07-19; ComponentLink1Description: Datasheet link; ComponentLink1URL: http://www.vishay.com/docs/20035/dcrcwe3.pdf; Supplier 1: Digi-Key; Supplier Part Number 1: 541-499KHCT-ND; Supplier 2: Mouser; Supplier Part Number 2: 71-CRCW0603-499K-E3; Supplier 3: Farnell; Supplier Part Number 3: 1152042
signal-integrity model Resistor
simulation model Resistor
footprint 0603
footprint 0603M
footprint 0603L
footprint 0603_HV
pins: 1, 2

## CRCW06030000Z0EA
designator R?  value 0  (hidden comment: CRCW06030000Z0EA)
RES, 0, 5%, 0.1 W, 0603; Manufacturer: Vishay-Dale; CompType: Resistor; Value_Code: 0000; Tolerance_%: 5; Power_W: 0.1; Value2: 0.1W; VDC_V: 75; TempCo: 200 ppm/C; EIA_Code: E24; U/M: EA; SymbolVersion: 2009-05-29; PartNumber: CRCW06030000Z0EA; PackageReference: 0603; RoHS: Y; Res_ohm: 0; Value1: 5%; MountType: SMT; Technology: Thick Film; Published: 2008-06-26; Publisher: Texas Instruments; LatestRevisionDate: 2014-09-19; ComponentLink1Description: Datasheet link; ComponentLink1URL: http://www.vishay.com/docs/20035/dcrcwe3.pdf; Supplier 1: Digi-Key; Supplier Part Number 1: 541-0.0GCT-ND; Supplier 2: Mouser; Supplier Part Number 2: 71-CRCW0603-0-E3; Supplier 3: Farnell; Supplier Part Number 3: 1469739; ValueDisplayed: 0
signal-integrity model Resistor
simulation model Resistor
footprint 0603
footprint 0603M
footprint 0603L
footprint 0603_HV
footprint 0603S
pins: 1, 2

## CSD16570Q5B
designator Q?  (value not drawn)
25V, N ch NexFET MOSFET™, single SON5x6, 0.82mOhm; Manufacturer: Texas Instruments; Manufacturer Part Number: CSD16570Q5BT; CompType: MOSFET; Continuous Drain Current (ID): 100A; Rds On Max: 0.59mR; Input Capacitance: 14nF; Max Power Dissipation: 195W; Gate to Source Voltage (Vgs): 20V; Fall Time: 72ns; Rise Time: 43ns; Turn-Off Delay Time: 156ns; Turn-On Delay Time: 5ns; Threshold Voltage: 1.5V; Number of Channels: 1; SymbolVersion: 2008-07-09; Value: 25V; PartNumber: CSD16570Q5B; PackageReference: DNK0008A; ComponentLink1Description: Datasheet link; ComponentLink1URL: http://www.ti.com/lit/ds/symlink/csd17308q3.pdf; Supplier 1: Digi-Key; RoHS: Yes; Category: MOSFETs; Stock 1: 3774; Pricing 1: 1=2.43000, 10=2.18600, 25=2.06240, 100=1.60880 (USD); Mount: Surface Mount; Number of Pins: 8; Weight: 0.000847oz; Contact Plating: Gold; Min Operating Temperature: -55°C; Max Operating Temperature: 150°C; Packaging: Tape and Reel; Drain to Source Voltage (Vdss): 25V; Element Configuration: Single; Drain to Source Breakdown Voltage: 25V; Package Quantity: 250; Lead Free: Contains Lead; REACH SVHC: No SVHC; ComponentLink2URL: http://www.farnell.com/datasheets/1874868.pdf?src-supplier=Farnell; ComponentLink2Description: http://www.farnell.com/datasheets/1874868.pdf?src-supplier=Farnell; ComponentLink3URL: http://www.farnell.com/datasheets/2026550.pdf?src-supplier=Element14; ComponentLink3Description: http://www.farnell.com/datasheets/2026550.pdf?src-supplier=Element14; ComponentLink4URL: http://www.ti.com/lit/ds/symlink/csd16570q5b.pdf?src-supplier=Digi-Key; ComponentLink4Description: http://www.ti.com/lit/ds/symlink/csd16570q5b.pdf?src-supplier=Digi-Key; ComponentLink5URL: http://www.ti.com/general/docs/lit/getliterature.tsp?genericPartNumber=CSD16570Q5B&fileType=pdf&src-supplier=Farnell; ComponentLink5Description: http://www.ti.com/general/docs/lit/getliterature.tsp?genericPartNumber=CSD16570Q5B&fileType=pdf&src-supplier=Farnell; ComponentLink6URL: http://www.ti.com/general/docs/lit/getliterature.tsp?genericPartNumber=CSD16570Q5B&&fileType=pdf&src-supplier=Avnet; ComponentLink6Description: http://www.ti.com/general/docs/lit/getliterature.tsp?genericPartNumber=CSD16570Q5B&&fileType=pdf&src-supplier=Avnet; ComponentLink7URL: http://www.farnell.com/datasheets/1874868.pdf?src-supplier=Element14; ComponentLink7Description: http://www.farnell.com/datasheets/1874868.pdf?src-supplier=Element14; ComponentLink8URL: http://www.ti.com/lit/gpn/csd16570q5b?src-supplier=Mouser; ComponentLink8Description: http://www.ti.com/lit/gpn/csd16570q5b?src-supplier=Mouser; Supplier Part Number 1: 296-38335-1-ND
footprint DNK8
pins: 1 S, 2 S, 3 S, 4 G, 5 D, 6 D, 7 D, 8 D
text: 5,6,; 7,8; 1,2,3

## CSD17308Q3
designator Q?  (value not drawn)
MOSFET, N-CH, 30V, 47A, SON 3.3x3.3mm; Manufacturer: Texas Instruments; Alternate Manufacturer: None; U/M: EA; ChType: N; VdsMax_V: 30; Value1: 0.0094 ohm; Rdson45_Ohm: 0.0094; Value2: 3.9 nC; QgTyp_nC: 3.9; Vgs_V: 10; IdsMax_A: 47; SymbolVersion: 2008-07-09; CompType: MOSFET; Value: 30V; PartNumber: CSD17308Q3; PackageReference: SON 3.3x3.3mm; RoHS: Y; MountType: SMT; Published: 2008-06-19; Publisher: Texas Instruments; LatestRevisionDate: 2013-07-24; LatestRevisionNote: Added parts.; ComponentLink1Description: Datasheet link; ComponentLink1URL: http://www.ti.com/lit/ds/symlink/csd17308q3.pdf; Supplier 1: Digi-Key; Supplier Part Number 1: 296-27210-1-ND; Supplier 2: Mouser; Supplier Part Number 2: 595-CSD17308Q3; Supplier 3: Farnell; Supplier Part Number 3: 1892457
footprint TRANS_NexFET_Q3
simulation model CSD17308Q3
pins: 1 S, 2 S, 3 S, 4 G, 5 D, 6 D, 7 D, 8 D
text: 5,6,; 7,8; 1,2,3

## CSD18502Q5B
designator Q?  (value not drawn)
40V, N ch NexFET MOSFET™, single SON5x6, 2.3mOhm; Manufacturer: Texas Instruments; CompType: MOSFET; Rise Time: 6.8ns; Continuous Drain Current (ID): 100A; Fall Time: 4ns; Gate to Source Voltage (Vgs): 20V; Turn-Off Delay Time: 23ns; Turn-On Delay Time: 5.3ns; Rds On Max: 2.3mR; Input Capacitance: 5.07nF; Power Dissipation: 3.2W; Drain to Source Resistance: 2.5mR; Threshold Voltage: 1.8V; Number of Elements: 1; SymbolVersion: 2008-07-09; Value: 40V; PartNumber: CSD18502Q5B; PackageReference: DNK0008A; ComponentLink1Description: Datasheet link; ComponentLink1URL: http://www.ti.com/lit/ds/symlink/csd17308q3.pdf; Supplier 1: Digi-Key; Manufacturer Part Number: CSD18502Q5B; RoHS: Yes; Category: Integrated Circuits (ICs); Stock 1: 29285; Pricing 1: 1=2.37000, 10=2.13300, 25=2.01240, 100=1.56980, 500=1.32826, 1000=1.12700 (USD); Mount: Surface Mount; Number of Pins: 8; Contact Plating: Tin,Matte; Min Operating Temperature: -55°C; Max Operating Temperature: 150°C; Element Configuration: Single; Packaging: Tape and Reel; Package Quantity: 1; Drain to Source Breakdown Voltage: 40V; Drain to Source Voltage (Vdss): 40V; Max Power Dissipation: 3.2W; Length: 6.1mm; Height: 1.05mm; Width: 5.1mm; Radiation Hardening: No; Lead Free: Contains Lead; REACH SVHC: No SVHC; ComponentLink2URL: https://datasheet.ciiva.com/14192/csd18502q5b-14192916.pdf?src-supplier=Avnet; ComponentLink2Description: https://datasheet.ciiva.com/14192/csd18502q5b-14192916.pdf?src-supplier=Avnet; ComponentLink3URL: https://datasheet.ciiva.com/14423/csd18502q5b-14423447.pdf?src-supplier=Avnet; ComponentLink3Description: https://datasheet.ciiva.com/14423/csd18502q5b-14423447.pdf?src-supplier=Avnet; ComponentLink4URL: https://datasheet.ciiva.com/6386/csd18502q5b-6386070.pdf?src-supplier=Digi-Key; ComponentLink4Description: https://datasheet.ciiva.com/6386/csd18502q5b-6386070.pdf?src-supplier=Digi-Key; ComponentLink5URL: https://datasheet.ciiva.com/6386/csd18502q5b-6386071.pdf?src-supplier=Digi-Key; ComponentLink5Description: https://datasheet.ciiva.com/6386/csd18502q5b-6386071.pdf?src-supplier=Digi-Key; ComponentLink6URL: https://datasheet.ciiva.com/6386/csd18502q5b-6386072.pdf?src-supplier=Digi-Key; ComponentLink6Description: https://datasheet.ciiva.com/6386/csd18502q5b-6386072.pdf?src-supplier=Digi-Key; Supplier Part Number 1: 296-35629-1-ND
footprint DNK8
pins: 1 S, 2 S, 3 S, 4 G, 5 D, 6 D, 7 D, 8 D
text: 5,6,; 7,8; 1,2,3

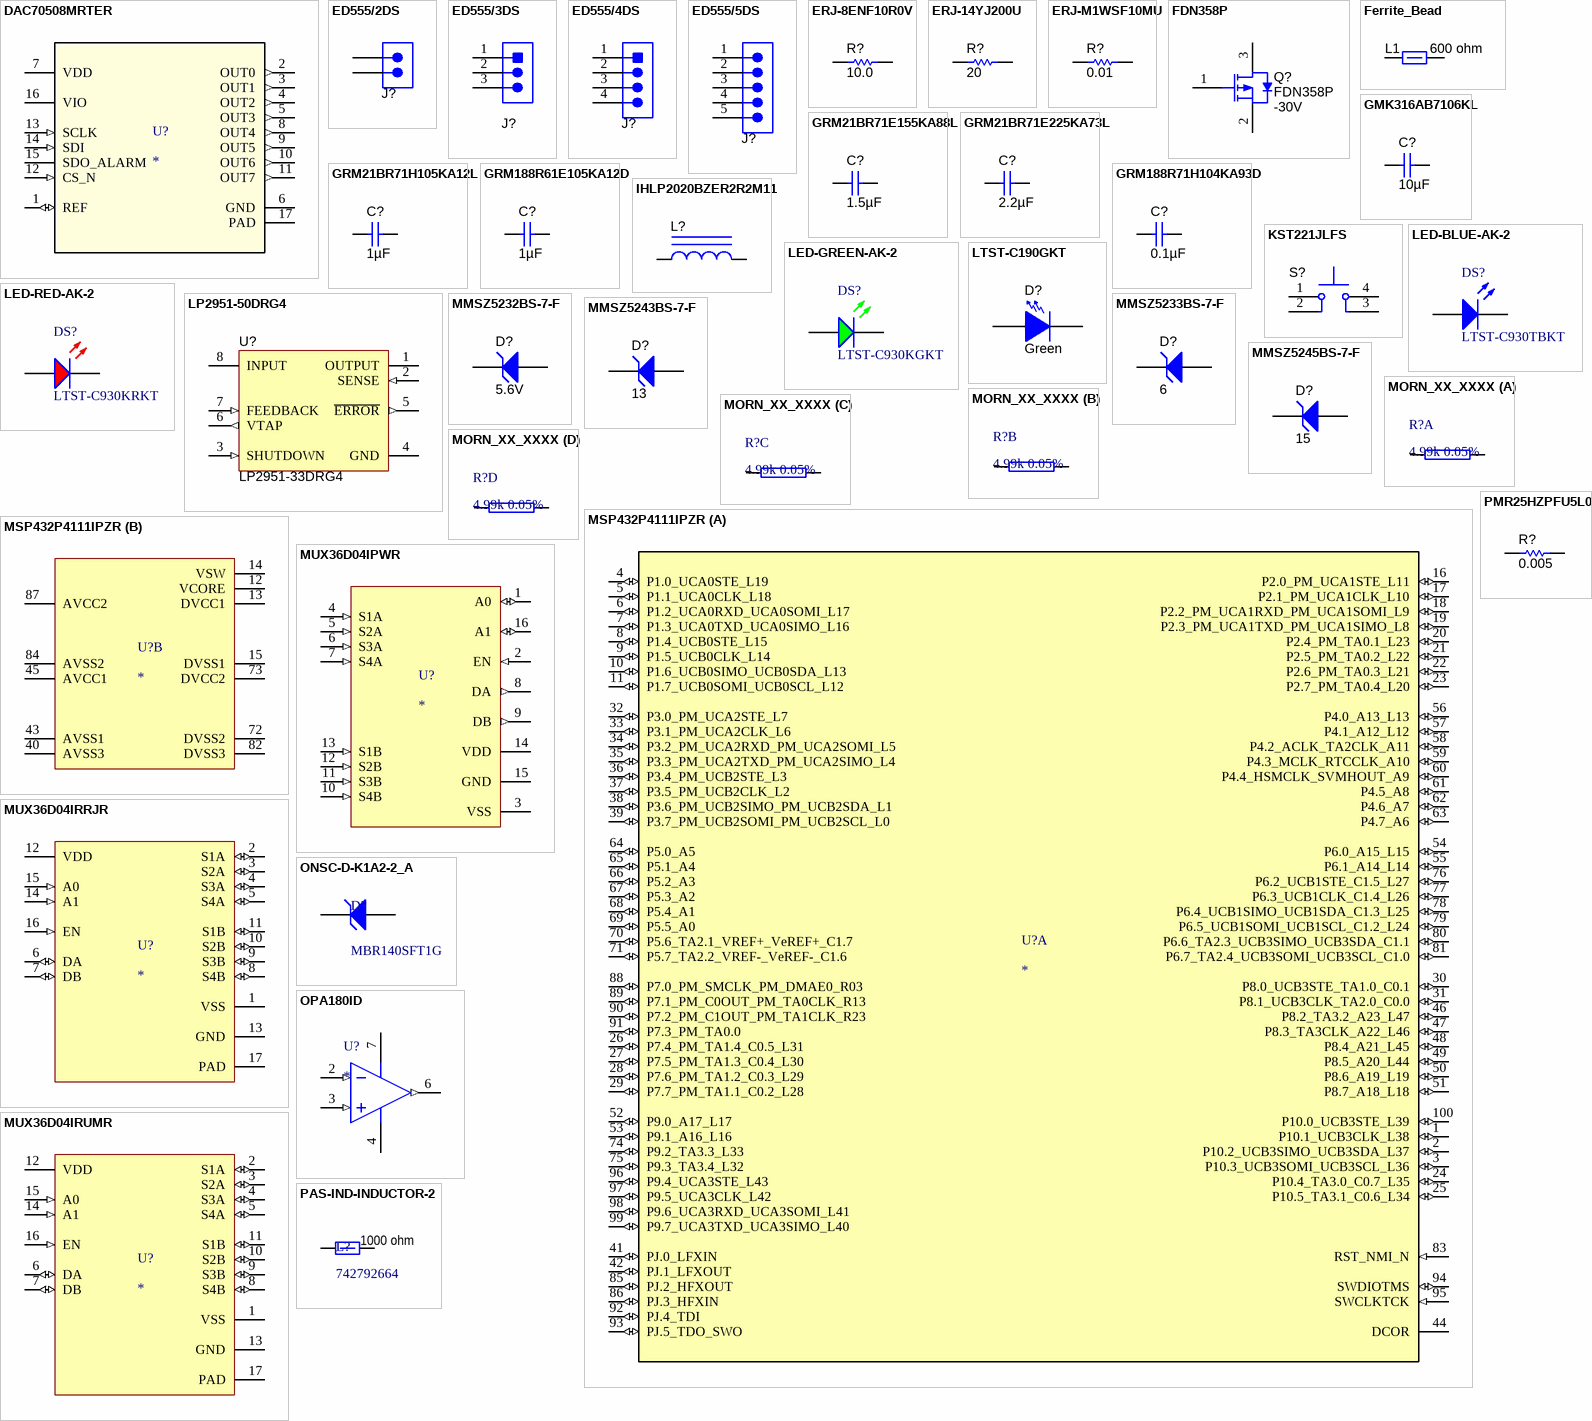
[diagram p1: symbols DAC70508MRTER to PMR25HZPFU5L00]

## DAC70508MRTER
designator U?
No Description Available; PartNumber: DAC70508ZRTER; Manufacturer: Texas Instruments; RefDes: RefDes; Type: DEV; Value: Value; Copyright: Copyright (C) 2018 Accelerated Designs. All rights reserved
footprint RTE0016D
pins: 1 REF (io), 2 OUT0 (out), 3 OUT1 (out), 4 OUT2 (out), 5 OUT3 (out), 6 GND (power), 7 VDD (power), 8 OUT4 (out), 9 OUT5 (out), 10 OUT6 (out), 11 OUT7 (out), 12 CS_N (in), 13 SCLK (in), 14 SDI (in), 15 SDO_ALARM (hiz), 16 VIO (power), 17 PAD (power)

## ED555/2DS
designator J?  (value not drawn)
Terminal Block, 6A, 3.5mm Pitch, 2-Pos, TH; Manufacturer: On-Shore Technology; SymbolCreator: a0412235; CompType: Connector; U/M: EA; SymbolVersion: 2013-03-14; PartNumber: ED555/2DS; RoHS: Y; PackageReference: 7.0x8.2x6.5mm; MountType: TH; ComponentLink1Description: Datasheet Link; ComponentLink1URL: http://on-shore.com/sites/default/files/manuals/ed555ds.pdf; Publisher: Texas Instruments; LatestRevisionDate: 2013-07-26; Supplier 1: Digi-Key; Supplier Part Number 1: ED1514-ND
footprint TERM_BLK_ED555-2DS
pins: 1, 2
1 alternate drawing of the same symbol

## ED555/3DS
designator J?  (value not drawn)
Terminal Block, 6A, 3.5mm Pitch, 3-Pos, TH; Manufacturer: On-Shore Technology; SymbolCreator: a0412235; CompType: Connector; U/M: EA; SymbolVersion: 2013-08-30; PartNumber: ED555/3DS; PackageReference: 14x8.2x6.5mm; RoHS: Y; MountType: TH; ComponentLink1Description: Datasheet Link; ComponentLink1URL: http://on-shore.com/sites/default/files/manuals/ed555ds.pdf; Publisher: Texas Instruments; LatestRevisionDate: 2014-09-28
footprint TERM_BLK_ED555-3DS (Footprint not found)
pins: 1, 2, 3

## ED555/4DS
designator J?  (value not drawn)
Terminal Block, 6A, 3.5mm Pitch, 4-Pos, TH; Manufacturer: On-Shore Technology; SymbolCreator: a0412235; CompType: Connector; U/M: EA; SymbolVersion: 2013-08-30; PartNumber: ED555/4DS; PackageReference: 14x8.2x6.5mm; RoHS: Y; MountType: TH; ComponentLink1Description: Datasheet Link; ComponentLink1URL: http://on-shore.com/sites/default/files/manuals/ed555ds.pdf; Publisher: Texas Instruments; LatestRevisionDate: 2014-09-28; Supplier 1: Digi-Key; Supplier Part Number 1: ED1516-ND
footprint TERM_BLK_ED555-4DS
pins: 1, 2, 3, 4

## ED555/5DS
designator J?  (value not drawn)
Terminal Block, 6A, 3.5mm Pitch, 5-Pos, TH; Manufacturer: On-Shore Technology; SymbolCreator: a0412235; CompType: Connector; U/M: EA; SymbolVersion: 2013-03-16; PartNumber: ED555/5DS; RoHS: Y; PackageReference: 17.5x8.2x6.5mm; MountType: TH; ComponentLink1Description: Datasheet Link; ComponentLink1URL: http://on-shore.com/sites/default/files/manuals/ed555ds.pdf; Publisher: Texas Instruments; LatestRevisionDate: 2013-07-11; Supplier 1: Digi-Key; Supplier Part Number 1: ED1517-ND
footprint TERM_BLK_ED555-5DS
pins: 1, 2, 3, 4, 5

## ERJ-8ENF10R0V
designator R?  value 10.0  (hidden comment: ERJ-8ENF10R0V)
RES, 10.0, 1%, 0.25 W, 1206; Manufacturer: Panasonic; CompType: Resistor; Res_ohm: 10; Value_Code: 10R0; Tolerance_%: 1; Power_W: 0.25; Value2: 0.25W; VDC_V: 200; TempCo: 100 ppm/C; EIA_Code: E96; U/M: EA; SymbolVersion: 2009-05-29; PartNumber: ERJ-8ENF10R0V; PackageReference: 1206; RoHS: Y; Value1: 1%; MountType: SMT; Technology: Thick Film; Published: 2008-06-26; Publisher: Texas Instruments; LatestRevisionDate: 2014-09-18; ComponentLink1Description: Datasheet link; ComponentLink1URL: http://www.panasonic.com/industrial/components/pdf/AOA0000CE2.pdf; Supplier 1: Digi-Key; Supplier Part Number 1: P10.0FCT-ND; Supplier 2: Farnell; Supplier Part Number 2: 1748406; ValueDisplayed: 10.0
signal-integrity model Resistor
simulation model Resistor
footprint 1206
footprint 1206M
footprint 1206L
pins: 1, 2

## ERJ-14YJ200U
designator R?  value 20  (hidden comment: ERJ-14YJ200U)
RES, 20 ohm, 5%, 0.5W, 1210; Manufacturer: Panasonic; CompType: Resistor; Value_Code: 20R0; Tolerance_%: 5; Power_W: 0.5; VDC_V: 200; TempCo: 200 ppm/C; EIA_Code: E24; U/M: EA; SymbolVersion: 2009-05-29; PartNumber: ERJ-14YJ200U; PackageReference: 1210; RoHS: Y; Res_ohm: 20; Value1: 5%; Value2: 0.5W; MountType: SMT; Technology: Thick Film; Published: 2008-06-26; Publisher: Texas Instruments; LatestRevisionDate: 2013-07-24; ComponentLink1Description: Datasheet link; ComponentLink1URL: http://industrial.panasonic.com/www-data/pdf/AOA0000/AOA0000CE1.pdf; Supplier 1: Digi-Key; Supplier Part Number 1: P20VCT-ND; Supplier 2: Mouser; Supplier Part Number 2: 667-ERJ-14YJ200U; Supplier 3: Farnell; Supplier Part Number 3: 2281553
signal-integrity model Resistor
simulation model Resistor
footprint 1210M
footprint 1210L
footprint 1210
pins: 1, 2

## ERJ-M1WSF10MU
designator R?  value 0.01  (hidden comment: ERJ-M1WSF10MU)
RES, 0.01 ohm, 1%, 1W, 2512; Manufacturer: Panasonic; CompType: Resistor; Value_Code: R010; Tolerance_%: 1; TempCo: 100 ppm/C; EIA_Code: E96; U/M: EA; SymbolVersion: 2009-05-29; PartNumber: ERJ-M1WSF10MU; PackageReference: 2512; RoHS: Y; Res_ohm: 0.01; Value1: 1%; Power_W: 1; Value2: 1W; MountType: SMT; Technology: Thick Film; Published: 2008-06-26; Publisher: Texas Instruments; LatestRevisionDate: 2013-07-17; ComponentLink1Description: Datasheet link; ComponentLink1URL: http://industrial.panasonic.com/www-cgi/jvcr13pz.cgi?E+PZ+3+AOA0007+ERJM1WTF3M0U+7+WW; Supplier 1: Digi-Key; Supplier Part Number 1: P10MCT-ND; Supplier 2: Mouser; Supplier Part Number 2: 667-ERJ-M1WSF10MU; Supplier 3: Farnell; Supplier Part Number 3: 1577582
signal-integrity model Resistor
simulation model Resistor
footprint 2512M
footprint 2512L
footprint 2512
pins: 1, 2

## FDN358P
designator Q?  value -30V
MOSFET, P-CH, -30V, -1.5A, SSOT-3; Manufacturer: Fairchild Semiconductor; Alternate Manufacturer: None; U/M: EA; ChType: P; VdsMax_V: -30; Value1: 0.2 ohm; Rdson45_Ohm: 0.2; Value2: 4 nC; QgTyp_nC: 4; Vgs_V: 20; IdsMax_A: -1.5; SymbolVersion: 2008-07-09; PartNumber: FDN358P; PackageReference: SSOT-3; CompType: MOSFET; RoHS: Y; MountType: SMT; Published: 2008-06-19; Publisher: Texas Instruments; LatestRevisionDate: 2013-11-17; LatestRevisionNote: Added parts.; ComponentLink1Description: Datasheet link; ComponentLink1URL: http://www.fairchildsemi.com/ds/FD/FDN358P.pdf; Supplier 1: Digi-Key; Supplier Part Number 1: FDN358PCT-ND; Supplier 2: Mouser; Supplier Part Number 2: 512-FDN358P; Supplier 3: Farnell; Supplier Part Number 3: 9846328
footprint SSOT-3
pins: 1 G, 2 S, 3 D

## Ferrite_Bead
designator L1  value 600 ohm  (hidden comment: Ferrite_Bead)
Ferrite Bead, 600 ohm @ 100 MHz, 1 A, 0603; PartNumber: 742792651; Manufacturer: Wurth Elektronik; Imax_A: 1A; DCR_ohm: 2d; Value1: 0.2 ohm; ZTyp@100MHz_Ohm: 600; Ztyp@1GHz_Ohm: 257.548; SizeArea_mm2: 1.28; SizeAreaWB_mm2: 4.68; SizeX_mm: 1.6; SizeY_mm: 0.8; SizeZ_mm: 1; CompType: Ferrite Bead; Value2: 1A; MountType: SMT; PackageReference: 0603; Published: 2014-04-30; Publisher: Texas Instruments; LatestRevisionDate: 2017-03-09; ComponentLink1Description: Datasheet link; ComponentLink1URL: http://katalog.we-online.de/pbs/datasheet/742792651.pdf; RoHS: Y; Supplier 1: Digi-Key; Supplier Part Number 1: 732-1593-1-ND; Supplier 2: Newark; Supplier Part Number 2: 08P2439; Supplier 3: Mouser; Supplier Part Number 3: 710-742792651; ValueDisplayed: 600 ohm
footprint 0603L
footprint 0603_HV (Ernesto recommended land pattern.  26 mil between pads.)
footprint 0603L (0603 from SM-752 data)
footprint 0603S
footprint 0603M (0603 from SM-752 data)
pins: 1, 2

## GMK316AB7106KL
designator C?  ValueDisplayed: 10µF  (hidden comment: GMK316AB7106KL)
CAP, CERM, 10 µF, 35 V, +/- 10%, X7R, 1206; Manufacturer: Taiyo Yuden; Polarized: N; CompType: Capacitor; Value: 10uF; U/M: EA; Cap_F: 0.00001; Tolerance_%: 10; Value1: Unknown; VDC_V: 35; Value2: 35V; TaMin_C: -55; TaMax_C: 125; Cap_Case: 1206; SymbolVersion: 2008-07-09; PartNumber: GMK316AB7106KL; PackageReference: 1206; RoHS: Y; MountType: SMT; Technology: Ceramic; TempCo: X7R; Published: 2008-06-19; Publisher: Texas Instruments; LatestRevisionDate: 2014-09-26; ComponentLink1Description: Datasheet link; ComponentLink1URL: http://www.yuden.co.jp/productdata/catalog/en/mlcc101_e.pdf; Supplier 1: Digi-Key; Supplier Part Number 1: 587-3007-1-ND; Supplier 2: Mouser; Supplier Part Number 2: 963-GMK316AB7106KL; Supplier 3: Farnell; Supplier Part Number 3: 2309034
signal-integrity model Cap
simulation model Cap
footprint 1206
footprint 1206M
footprint 1206L
pins: 1, 2